# Altium footprint library LQ-TC264-SYSVB.PcbLib: 14 footprints
Each footprint in its own frame and in the unit in brackets; x right, y up, seen from the top. Pads: shape width x height; smd on the part's side, far side on the other; paste and mask are expansions set on the pad; w line width, h text height; cw(c..) or ccw(c..) is an arc to the next point about the centre after c.
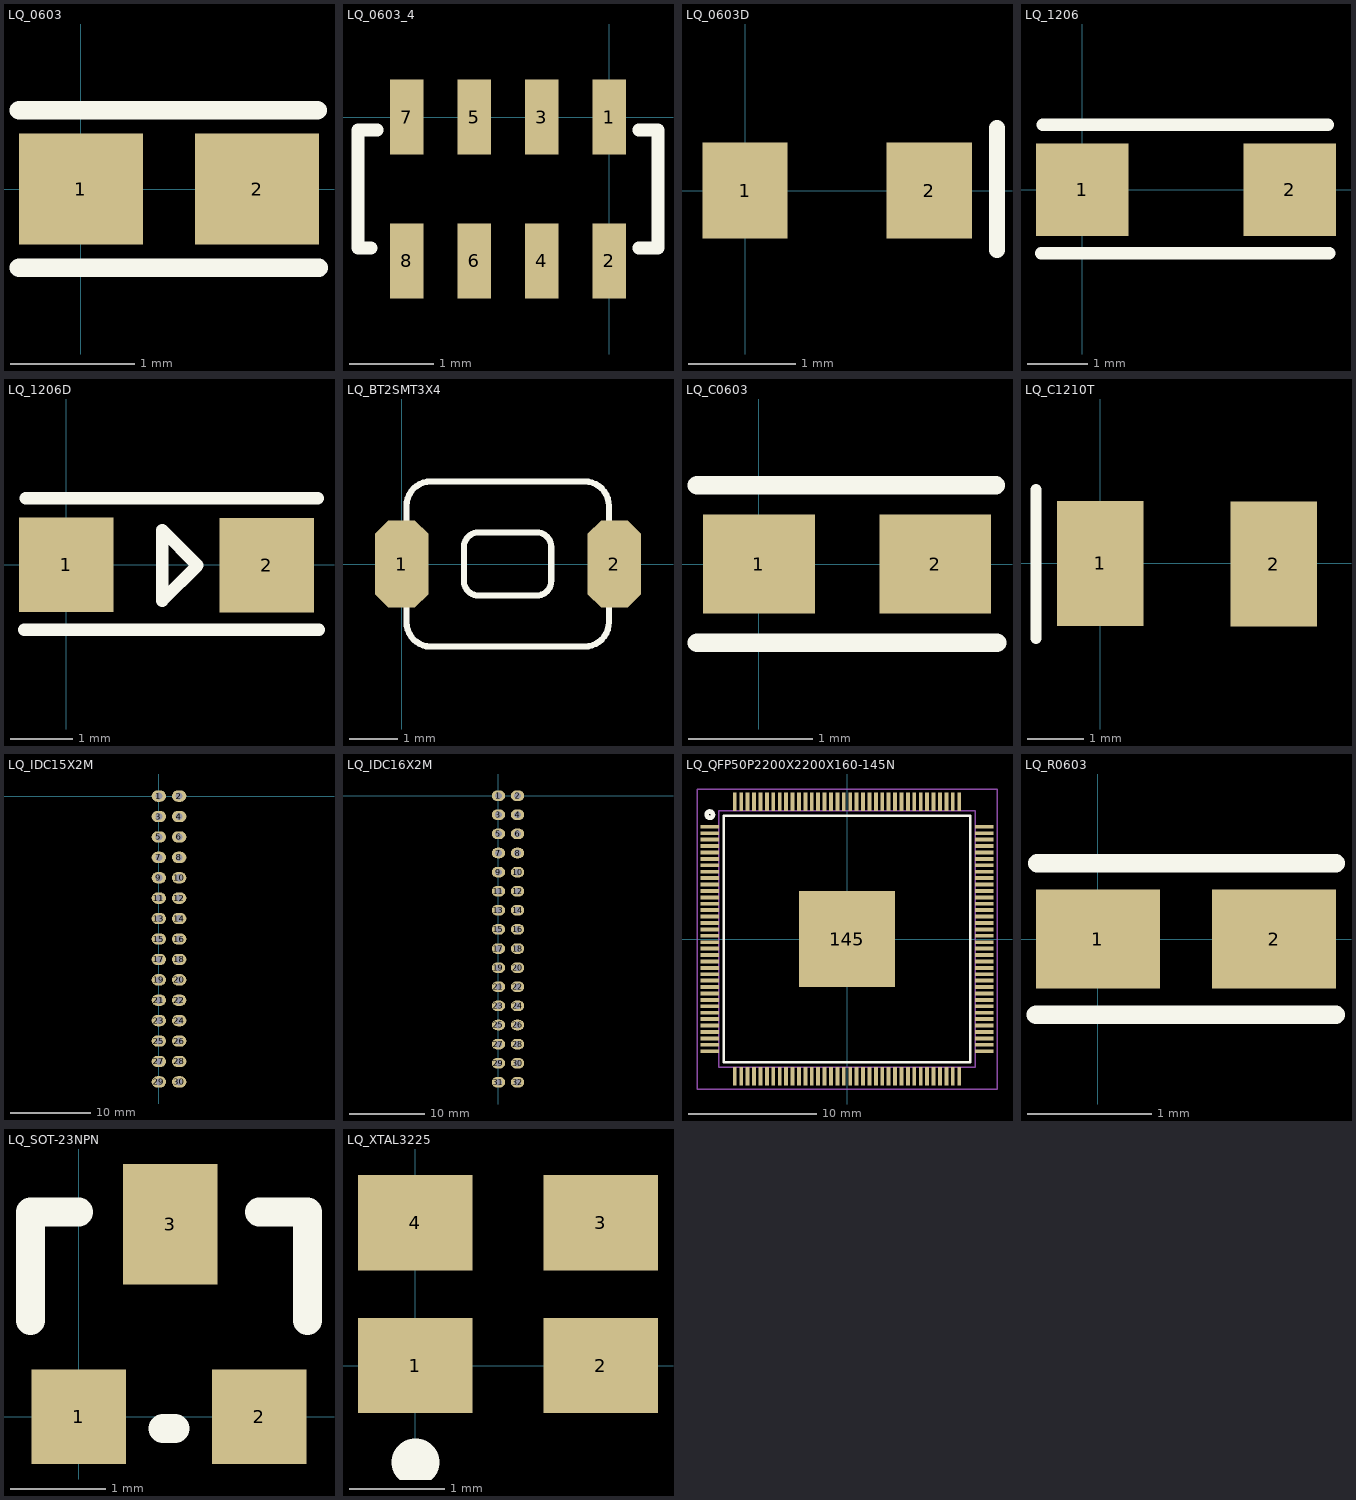
[diagram p0: the footprints below, top view; thin cyan lines are the x and y axes]

## LQ_0603 [mm]
pads (2):
  rect 1x0.9 smd: 1(0,0) 2(1.422,0)
Top Overlay:
  lines w0.15: -0.5,-0.635 1.92,-0.635 ; -0.5,0.635 1.91,0.635
3D body: height 0.3, standoff 0, extent -0.08,-0.4 1.52,0.4

## LQ_0603_4 [mm]
pads (8):
  rect 0.4x0.889 smd: 1(0,0) 2(0,-1.702) 3(-0.8,0) 4(-0.8,-1.702) 5(-1.6,0) 6(-1.6,-1.702) 7(-2.4,0) 8(-2.4,-1.702)
Top Overlay:
  lines w0.152: -2.826,-1.549 -2.978,-1.549 -2.978,-0.152 -2.749,-0.152 ; 0.349,-1.549 0.578,-1.549 0.578,-0.152 ; 0.349,-0.152 0.553,-0.152
3D body: height 0.55, standoff 0, extent -2.8,-1.64 0.4,-0.04

## LQ_0603D [mm]
pads (2):
  rect 0.8x0.9 smd: 1(0,0) 2(1.727,0)
Top Overlay:
  lines w0.15: 2.362,-0.556 2.362,0.584

## LQ_1206 [mil]
pads (2):
  rect 60x60 smd: 1(0,0) 2(135,0)
Top Overlay:
  lines w7.87: -26.77,-41.34 160.63,-41.34 ; -25.59,42.13 159.84,42.13

## LQ_1206D [mil]
height 62.99
pads (2):
  rect 60x60 smd: 1(0,0) 2(127.56,-0.39)
Top Overlay:
  lines w7.87: -26.77,-41.34 160.63,-41.34 ; -25.59,42.13 159.84,42.13 ; 61,-22.88 61,22 83.44,-0.44 61,-22.88
3D body: height 61.02, standoff 1.97, extent -4.34,-29.54 133.46,29.51

## LQ_BT2SMT3X4 [mm]
pads (2):
  oct 1.1x1.8 smd: 1(0,0) 2(4.38,0)
Top Overlay:
  lines w0.127: 0.5,-1.7 3.769,-1.7 ccw(c3.769,-1.2) 4.269,-1.2 4.269,1.2 ccw(c3.769,1.2) 3.769,1.7 0.6,1.7 ccw(c0.6,1.2) 0.1,1.2 0.1,-1.2 ccw(c0.6,-1.2) 0.6,-1.7 ; 1.283,-0.349 ccw(c1.583,-0.349) 1.583,-0.649 2.783,-0.649 ccw(c2.783,-0.349) 3.083,-0.349 3.083,0.351 ccw(c2.783,0.351) 2.783,0.651 1.583,0.651 ccw(c1.583,0.351) 1.283,0.351 1.283,-0.349
3D body "LQ_PBT3x4x2.STEP": height 2, standoff 0, extent -0.26,-1.44 4.64,1.46

## LQ_C0603 [mm]
pads (2):
  rect 0.9x0.8 smd: 1(0,0) 2(1.422,0)
Top Overlay:
  lines w0.15: -0.5,-0.635 1.92,-0.635 ; -0.5,0.635 1.91,0.635
3D body "LQ_C0603.step": height 0.3, standoff 0, extent -0.08,-0.4 1.52,0.4

## LQ_C1210T [mm]
pads (2):
  rect 1.524x2.2 smd: 1(0,0) 2(3.06,-0.01)
Top Overlay:
  lines w0.2: -1.13,-1.32 -1.13,1.3
3D body: height 1.9, standoff 0, extent -0.21,-1.41 3.29,1.39

## LQ_IDC15X2M [mm]
pads (30):
  oval 1.778x1.4 hole 0.88: 1(0,0) 2(2.54,0) 3(0,-2.54) 4(2.54,-2.54) 5(0,-5.08) 6(2.54,-5.08) 7(0,-7.62) 8(2.54,-7.62) 9(0,-10.16) 10(2.54,-10.16) 11(0,-12.7) 12(2.54,-12.7) 13(0,-15.24) 14(2.54,-15.24) 15(0,-17.78) 16(2.54,-17.78) 17(0,-20.32) 18(2.54,-20.32) 19(0,-22.86) 20(2.54,-22.86) 21(0,-25.4) 22(2.54,-25.4) 23(0,-27.94) 24(2.54,-27.94) 25(0,-30.48) 26(2.54,-30.48) 27(0,-33.02) 28(2.54,-33.02) 29(0,-35.56) 30(2.54,-35.56)

## LQ_IDC16X2M [mm]
pads (32):
  oval 1.778x1.4 hole 0.88: 1(0,0) 2(2.54,0) 3(0,-2.54) 4(2.54,-2.54) 5(0,-5.08) 6(2.54,-5.08) 7(0,-7.62) 8(2.54,-7.62) 9(0,-10.16) 10(2.54,-10.16) 11(0,-12.7) 12(2.54,-12.7) 13(0,-15.24) 14(2.54,-15.24) 15(0,-17.78) 16(2.54,-17.78) 17(0,-20.32) 18(2.54,-20.32) 19(0,-22.86) 20(2.54,-22.86) 21(0,-25.4) 22(2.54,-25.4) 23(0,-27.94) 24(2.54,-27.94) 25(0,-30.48) 26(2.54,-30.48) 27(0,-33.02) 28(2.54,-33.02) 29(0,-35.56) 30(2.54,-35.56) 31(0,-38.1) 32(2.54,-38.1)

## LQ_QFP50P2200X2200X160-145N [mm] "QFP,0.50mm pitch,square;144 pin,20.00mm L X 20.00mm W X 1.60mm H body (w/thermal tab)"
height 1.6
pads (145):
  rect 1.45x0.3 smd paste+0 mask+0: 1(-10.7,8.75) 2(-10.7,8.25) 3(-10.7,7.75) 4(-10.7,7.25) 5(-10.7,6.75) 6(-10.7,6.25) 7(-10.7,5.75) 8(-10.7,5.25) 9(-10.7,4.75) 10(-10.7,4.25) 11(-10.7,3.75) 12(-10.7,3.25) 13(-10.7,2.75) 14(-10.7,2.25) 15(-10.7,1.75) 16(-10.7,1.25) 17(-10.7,0.75) 18(-10.7,0.25) 19(-10.7,-0.25) 20(-10.7,-0.75) 21(-10.7,-1.25) 22(-10.7,-1.75) 23(-10.7,-2.25) 24(-10.7,-2.75) 25(-10.7,-3.25) 26(-10.7,-3.75) 27(-10.7,-4.25) 28(-10.7,-4.75) 29(-10.7,-5.25) 30(-10.7,-5.75) 31(-10.7,-6.25) 32(-10.7,-6.75) 33(-10.7,-7.25) 34(-10.7,-7.75) 35(-10.7,-8.25) 36(-10.7,-8.75) 73(10.7,-8.75) 74(10.7,-8.25) 75(10.7,-7.75) 76(10.7,-7.25) 77(10.7,-6.75) 78(10.7,-6.25) 79(10.7,-5.75) 80(10.7,-5.25) 81(10.7,-4.75) 82(10.7,-4.25) 83(10.7,-3.75) 84(10.7,-3.25) 85(10.7,-2.75) 86(10.7,-2.25) 87(10.7,-1.75) 88(10.7,-1.25) 89(10.7,-0.75) 90(10.7,-0.25) 91(10.7,0.25) 92(10.7,0.75) 93(10.7,1.25) 94(10.7,1.75) 95(10.7,2.25) 96(10.7,2.75) 97(10.7,3.25) 98(10.7,3.75) 99(10.7,4.25) 100(10.7,4.75) 101(10.7,5.25) 102(10.7,5.75) 103(10.7,6.25) 104(10.7,6.75) 105(10.7,7.25) 106(10.7,7.75) 107(10.7,8.25) 108(10.7,8.75)
  rect 0.3x1.45 smd paste+0 mask+0: 37(-8.75,-10.7) 38(-8.25,-10.7) 39(-7.75,-10.7) 40(-7.25,-10.7) 41(-6.75,-10.7) 42(-6.25,-10.7) 43(-5.75,-10.7) 44(-5.25,-10.7) 45(-4.75,-10.7) 46(-4.25,-10.7) 47(-3.75,-10.7) 48(-3.25,-10.7) 49(-2.75,-10.7) 50(-2.25,-10.7) 51(-1.75,-10.7) 52(-1.25,-10.7) 53(-0.75,-10.7) 54(-0.25,-10.7) 55(0.25,-10.7) 56(0.75,-10.7) 57(1.25,-10.7) 58(1.75,-10.7) 59(2.25,-10.7) 60(2.75,-10.7) 61(3.25,-10.7) 62(3.75,-10.7) 63(4.25,-10.7) 64(4.75,-10.7) 65(5.25,-10.7) 66(5.75,-10.7) 67(6.25,-10.7) 68(6.75,-10.7) 69(7.25,-10.7) 70(7.75,-10.7) 71(8.25,-10.7) 72(8.75,-10.7) 109(8.75,10.7) 110(8.25,10.7) 111(7.75,10.7) 112(7.25,10.7) 113(6.75,10.7) 114(6.25,10.7) 115(5.75,10.7) 116(5.25,10.7) 117(4.75,10.7) 118(4.25,10.7) 119(3.75,10.7) 120(3.25,10.7) 121(2.75,10.7) 122(2.25,10.7) 123(1.75,10.7) 124(1.25,10.7) 125(0.75,10.7) 126(0.25,10.7) 127(-0.25,10.7) 128(-0.75,10.7) 129(-1.25,10.7) 130(-1.75,10.7) 131(-2.25,10.7) 132(-2.75,10.7) 133(-3.25,10.7) 134(-3.75,10.7) 135(-4.25,10.7) 136(-4.75,10.7) 137(-5.25,10.7) 138(-5.75,10.7) 139(-6.25,10.7) 140(-6.75,10.7) 141(-7.25,10.7) 142(-7.75,10.7) 143(-8.25,10.7) 144(-8.75,10.7)
  rect 7.5x7.5 smd paste+0 mask+0: 145(0,0)
Top Overlay:
  circle w0.35: c-10.7,9.7 r0.25
  lines w0.2: -9.6,-9.6 -9.6,9.6 9.6,9.6 9.6,-9.6 -9.6,-9.6
Mechanical 13:
  lines w0.1: -10,-10 -10,10 10,10 10,-10 -10,-10
Mechanical 15:
  lines w0.1: -0.5,0 0.5,0 ; 0,-0.5 0,0.5 ; -11.7,-11.7 -11.7,11.7 11.7,11.7 11.7,-11.7 -11.7,-11.7
3D body "TQFP50P2200X2200X160-144N MS-026BFB TQ144.stp": height 1.75, standoff 0, extent -11.014,-11.014 11.014,11.014

## LQ_R0603 [mm]
pads (2):
  rect 1x0.8 smd: 1(0,0) 2(1.422,0)
Top Overlay:
  lines w0.15: -0.5,-0.61 1.92,-0.61 ; -0.49,0.61 1.92,0.61
3D body: height 0.23, standoff -0.23, extent -0.08,-0.4 1.52,0.4

## LQ_SOT-23NPN [mm]
height 1.6
pads (3):
  rect 1x1 smd: 1(0,0) 2(1.905,0)
  rect 1x1.27 smd: 3(0.965,2.032)
Top Overlay:
  lines w0.305: -0.508,1.016 -0.508,2.159 0,2.159 ; 0.889,-0.127 1.016,-0.127 ; 1.905,2.159 2.413,2.159 2.413,1.016
3D body: height 1.2, standoff 0, extent -0.5,-0.31 2.4,2.49

## LQ_XTAL3225 [mm]
pads (4):
  rect 1.2x1 smd: 1(0,0) 2(1.95,0) 3(1.95,1.5) 4(0,1.5)
Top Overlay:
  lines w0.5: 0,-1.016 0.005,-1.014
3D body: height 0.81, standoff 0, extent -0.62,-0.5 2.58,2